# Altium footprint library micrel-package.PcbLib: 3 footprints
Each footprint in its own frame and in the unit in brackets; x right, y up, seen from the top. Pads: shape width x height; smd on the part's side, far side on the other; paste and mask are expansions set on the pad; w line width, h text height; cw(c..) or ccw(c..) is an arc to the next point about the centre after c.
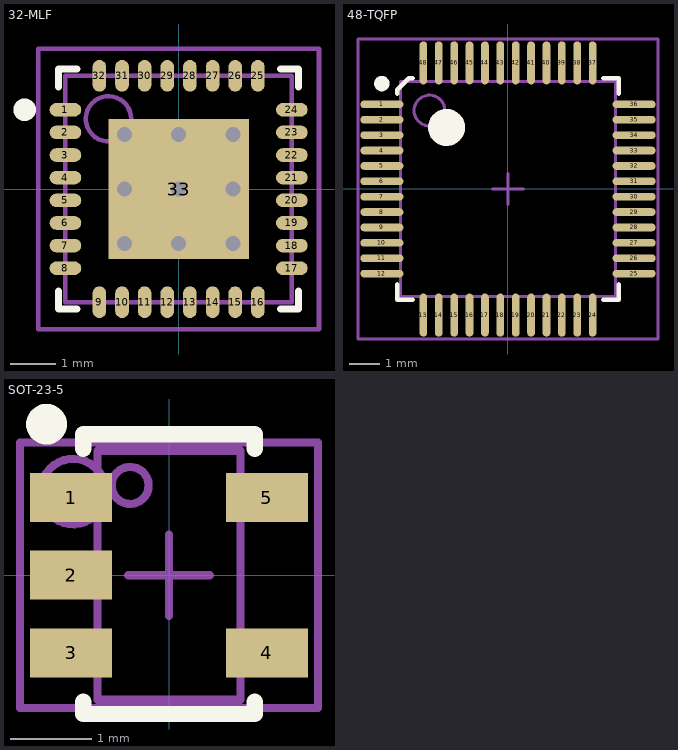
[diagram p0: the footprints below, top view; thin cyan lines are the x and y axes]

## 32-MLF [mm] "QFN, 32-Leads, Body 5.0x5.0mm (max), Pitch 0.50mm, IPC Medium Density"
height 0.85
pads (33):
  oval 0.7x0.3 smd: 1(-2.5,1.75) 2(-2.5,1.25) 3(-2.5,0.75) 4(-2.5,0.25) 5(-2.5,-0.25) 6(-2.5,-0.75) 7(-2.5,-1.25) 8(-2.5,-1.75) 17(2.5,-1.75) 18(2.5,-1.25) 19(2.5,-0.75) 20(2.5,-0.25) 21(2.5,0.25) 22(2.5,0.75) 23(2.5,1.25) 24(2.5,1.75)
  oval 0.3x0.7 smd: 9(-1.75,-2.5) 10(-1.25,-2.5) 11(-0.75,-2.5) 12(-0.25,-2.5) 13(0.25,-2.5) 14(0.75,-2.5) 15(1.25,-2.5) 16(1.75,-2.5) 25(1.75,2.5) 26(1.25,2.5) 27(0.75,2.5) 28(0.25,2.5) 29(-0.25,2.5) 30(-0.75,2.5) 31(-1.25,2.5) 32(-1.75,2.5)
  rect 3.1x3.1 smd: 33(0,0)
via -1.2,1.2 diameter 0.66 hole 0.33
via 0,1.2 diameter 0.66 hole 0.33
via 1.2,1.2 diameter 0.66 hole 0.33
via -1.2,0 diameter 0.66 hole 0.33
via 0,0 diameter 0.66 hole 0.33
via 1.2,0 diameter 0.66 hole 0.33
via -1.2,-1.2 diameter 0.66 hole 0.33
via 0,-1.2 diameter 0.66 hole 0.33
via 1.2,-1.2 diameter 0.66 hole 0.33
Top Overlay:
  circle w0.25: c-3.4,1.75 r0.125
  lines w0.16: -2.65,-2.25 -2.65,-2.65 -2.25,-2.65 ; -2.65,2.25 -2.65,2.65 -2.25,2.65 ; 2.25,-2.65 2.65,-2.65 2.65,-2.25 ; 2.25,2.65 2.65,2.65 2.65,2.25
Mechanical 13:
  circle w0.1: c-1.55,1.55 r0.5
  lines w0.1: -0.5,0 0.5,0 ; 0,-0.5 0,0.5 ; -2.5,-2.5 -2.5,2.5 2.5,2.5 2.5,-2.5 -2.5,-2.5
Mechanical 15:
  lines w0.1: -3.1,-3.1 -3.1,3.1 3.1,3.1 3.1,-3.1 -3.1,-3.1
  text ".Designator" at -1.85,-0.175 h0.5
3D body: height 0.85, standoff 0.05, extent -2.5,-2.5 2.5,2.5

## 48-TQFP [mm] "TSQFP, 48-Leads, Body 9.0x9.0mm (max), Pitch 0.50mm, IPC High Density"
height 1.2
pads (48):
  oval 1.4x0.25 smd: 1(-4.1,2.75) 2(-4.1,2.25) 3(-4.1,1.75) 4(-4.1,1.25) 5(-4.1,0.75) 6(-4.1,0.25) 7(-4.1,-0.25) 8(-4.1,-0.75) 9(-4.1,-1.25) 10(-4.1,-1.75) 11(-4.1,-2.25) 12(-4.1,-2.75) 25(4.1,-2.75) 26(4.1,-2.25) 27(4.1,-1.75) 28(4.1,-1.25) 29(4.1,-0.75) 30(4.1,-0.25) 31(4.1,0.25) 32(4.1,0.75) 33(4.1,1.25) 34(4.1,1.75) 35(4.1,2.25) 36(4.1,2.75)
  oval 0.25x1.4 smd: 13(-2.75,-4.1) 14(-2.25,-4.1) 15(-1.75,-4.1) 16(-1.25,-4.1) 17(-0.75,-4.1) 18(-0.25,-4.1) 19(0.25,-4.1) 20(0.75,-4.1) 21(1.25,-4.1) 22(1.75,-4.1) 23(2.25,-4.1) 24(2.75,-4.1) 37(2.75,4.1) 38(2.25,4.1) 39(1.75,4.1) 40(1.25,4.1) 41(0.75,4.1) 42(0.25,4.1) 43(-0.25,4.1) 44(-0.75,4.1) 45(-1.25,4.1) 46(-1.75,4.1) 47(-2.25,4.1) 48(-2.75,4.1)
Top Overlay:
  circle w0.6: c-2,2 r0.3
  circle w0.25: c-4.1,3.425 r0.125
  lines w0.16: -3.6,-3.1 -3.6,-3.6 -3.1,-3.6 ; -3.6,3.1 -3.6,3.225 -3.225,3.6 -3.1,3.6 ; 3.1,-3.6 3.6,-3.6 3.6,-3.1 ; 3.1,3.6 3.6,3.6 3.6,3.1
Mechanical 13:
  circle w0.1: c-2.55,2.55 r0.5
  lines w0.1: -0.5,0 0.5,0 ; 0,-0.5 0,0.5 ; -3.5,-3.5 3.5,-3.5 3.5,3.5 -3.5,3.5 -3.5,-3.5
Mechanical 15:
  lines w0.1: -4.875,-4.875 4.875,-4.875 4.875,4.875 -4.875,4.875 -4.875,-4.875
  text ".Designator" at -2.175,-0.125 h0.5
3D body: height 1.58, standoff 0.02, extent -4.5,-4.5 4.5,4.5

## SOT-23-5 [mm] "SOT23, 5-Leads, Body 3.0x3.0mm (max), Pitch 0.95mm, IPC Medium Density"
height 1.45
pads (5):
  rect 1x0.6 smd: 1(-1.2,0.95) 2(-1.2,0) 3(-1.2,-0.95) 4(1.2,-0.95) 5(1.2,0.95)
Top Overlay:
  circle w0.25: c-1.5,1.85 r0.125
  lines w0.2: -1.05,-1.55 -1.05,-1.7 1.05,-1.7 1.05,-1.55 ; -1.05,1.55 -1.05,1.725 1.05,1.725 1.05,1.55
Mechanical 13:
  circle w0.1: c-0.476,1.1 r0.226
  lines w0.1: -0.5,0 0.5,0 ; 0,-0.5 0,0.5 ; -0.875,-1.525 0.875,-1.525 0.875,1.525 -0.875,1.525 -0.875,-1.525
Mechanical 15:
  circle w0.1: c-1.175,1.025 r0.4
  lines w0.1: -1.825,-1.625 1.825,-1.625 1.825,1.625 -1.825,1.625 -1.825,-1.625
  text ".Designator" at 0.225,-1.3 h0.5
3D body: height 1.09, standoff -0.01, extent -1.25,-1.5 1.25,1.5